# Altium footprint library Anaren.PcbLib: 3 footprints
Each footprint in its own frame and in the unit in brackets; x right, y up, seen from the top. Pads: shape width x height; smd on the part's side, far side on the other; paste and mask are expansions set on the pad; w line width, h text height; cw(c..) or ccw(c..) is an arc to the next point about the centre after c.
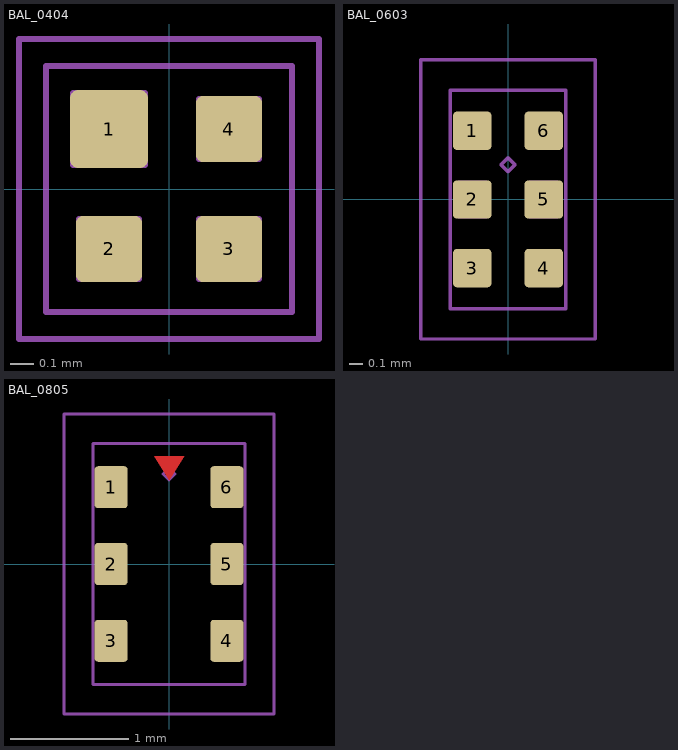
[diagram p0: the footprints below, top view; thin cyan lines are the x and y axes]

## BAL_0404 [mil] "0404 Balun"
pads (4):
  rrect20% 13x13 smd mask+1.5: 1(-10,10)
  rrect20% 11x11 smd mask+1.5: 2(-10,-10) 3(10,-10) 4(10,10)
Top Component Outline:
  lines w1: -25,-25 -25,25 25,25 25,-25 -25,-25
Top 3D Body (Mech16):
  lines w1: -20.47,-20.47 -20.47,20.47 20.47,20.47 20.47,-20.47 -20.47,-20.47 ; -16,4 -4,4 -4,16 -16,16 -16,4 ; -15,-15 -15,-5 -5,-5 -5,-15 -15,-15 ; 5,-15 15,-15 15,-5 5,-5 5,-15 ; 5,5 5,15 15,15 15,5 5,5
3D body: height 22.5, standoff 5, extent -15,2 -2,15
3D body: height 22, standoff 0.5, extent -20.47,-20.47 20.47,20.47

## BAL_0603 [mil] "0603 Balun"
pads (6):
  rrect20% 11x11 smd mask+1.5: 1(-10.24,19.68) 2(-10.24,0) 3(-10.24,-19.68) 4(10.24,-19.68) 5(10.24,0) 6(10.24,19.68)
Top Solder:
  region: 0,35 7,46 -7,46
Top Component Outline:
  lines w1: -25,-40 25,-40 25,40 -25,40 -25,-40
Top 3D Body (Mech16):
  lines w1: -16.54,-31.3 -16.54,31.3 16.54,31.3 16.54,-31.3 -16.54,-31.3 ; -14.17,-24.61 -14.17,-14.76 -6.3,-14.76 -6.3,-24.61 -14.17,-24.61 ; -14.17,-4.92 -14.17,4.92 -6.3,4.92 -6.3,-4.92 -14.17,-4.92 ; -14.17,14.76 -6.3,14.76 -6.3,24.61 -14.17,24.61 -14.17,14.76 ; -2,10 0,8 2,10 0,12 -2,10 ; 6.3,-24.61 14.17,-24.61 14.17,-14.76 6.3,-14.76 6.3,-24.61 ; 6.3,-4.92 6.3,4.92 14.17,4.92 14.17,-4.92 6.3,-4.92 ; 6.3,14.76 6.3,24.61 14.17,24.61 14.17,14.76 6.3,14.76
3D body: height 26.77, standoff 0.5, extent -16.54,-31.3 16.54,31.3
3D body: height 26.78, standoff 5, extent -6.5,9 6.5,22

## BAL_0805 [mil] "0805 Balun"
pads (6):
  rrect20% 11x14 smd mask+1.5: 1(-19.29,25.59) 2(-19.29,0) 3(-19.29,-25.59) 4(19.29,-25.59) 5(19.29,0) 6(19.29,25.59)
Top Layer:
  region: 0,28 5,36 -5,36
Top Component Outline:
  lines w1: -35,-50 -35,50 35,50 35,-50 -35,-50
Top 3D Body (Mech16):
  lines w1: -25.39,-40.16 25.39,-40.16 25.39,40.16 -25.39,40.16 -25.39,-40.16 ; -23.62,-31.5 -14.96,-31.5 -14.96,-19.69 -23.62,-19.69 -23.62,-31.5 ; -23.62,-5.91 -14.96,-5.91 -14.96,5.91 -23.62,5.91 -23.62,-5.91 ; -23.62,19.69 -14.96,19.69 -14.96,31.5 -23.62,31.5 -23.62,19.69 ; -2,30 0,28 2,30 0,32 -2,30 ; 14.96,-31.5 23.62,-31.5 23.62,-19.69 14.96,-19.69 14.96,-31.5 ; 14.96,-5.91 14.96,5.91 23.62,5.91 23.62,-5.91 14.96,-5.91 ; 14.96,19.69 23.62,19.69 23.62,31.5 14.96,31.5 14.96,19.69
3D body: height 26.77, standoff 0.5, extent -25.39,-40.16 25.39,40.16
3D body: height 26.78, standoff 5, extent -6.5,24 6.5,37